# EAGLE library part XT-ZB1 (library XT_ZB1)
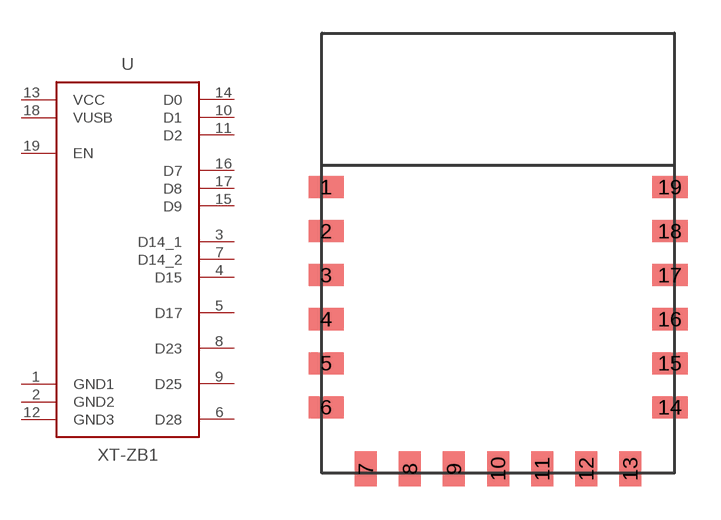
[diagram p0: symbol with the pads of XT-ZB1_FP; footprint XT-ZB1_FP]

Designator prefix -

## XT-ZB1  [XT-ZB1_FP]
1  GND1  pwr
2  GND2  pwr
3  D14_1
4  D15
5  D17
6  D28
7  D14_2
8  D23
9  D25
10  D1
11  D2
12  GND3  pwr
13  VCC  pwr
14  D0
15  D9
16  D7
17  D8
18  VUSB  pwr
19  EN  in

## Footprint XT-ZB1_FP (pad centres in mm)
smd 1.6 x 1: 1 -7.8,3; 2 -7.8,1; 3 -7.8,-1; 4 -7.8,-3; 5 -7.8,-5; 6 -7.8,-7; 14 7.8,-7; 15 7.8,-5; 16 7.8,-3; 17 7.8,-1; 18 7.8,1; 19 7.8,3
smd 1 x 1.6: 7 -6,-9.8; 8 -4,-9.8; 9 -2,-9.8; 10 0,-9.8; 11 2,-9.8; 12 4,-9.8; 13 6,-9.8